# Altium schematic symbol library R-CRCW060347K0JNEA.Schlib: 1 symbol
Pins are listed as number, name and electrical type; pins without a type are passive.

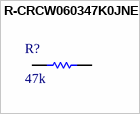
[diagram p0: symbol R-CRCW060347K0JNEA]

## R-CRCW060347K0JNEA
designator R?, comment 47k
Thick Film Resistors - SMD 1/10watt 47Kohms 5%
pins: 1, 2